# Altium schematic symbol library B10B-XASK-1_LF__SN_.SchLib: 1 symbol
Pins are listed as number, name and electrical type; pins without a type are passive.

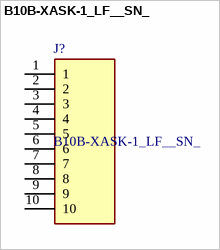
[diagram p0: symbol B10B-XASK-1_LF__SN_]

## B10B-XASK-1_LF__SN_
designator J?
Connector Header Through Hole  position 0.098" (2.50mm); Manufacturer_Name: JST (JAPAN SOLDERLESS TERMINALS); Manufacturer_Part_Number: B10B-XASK-1(LF)(SN); Geometry.Height: 7mm; Mouser Part Number: *; Mouser Price/Stock: *; Datasheet Link: https://datasheet.datasheetarchive.com/originals/dk/DKDS41/DSANUWW0025348.pdf
footprint SHDR10W64P0X250_1X10_2740X575X700P
pins: 1, 2, 3, 4, 5, 6, 7, 8, 9, 10